# Altium footprint library 凯华热插拔-SK6812-3528反贴.PcbLib: 9 footprints
Each footprint in its own frame and in the unit in brackets; x right, y up, seen from the top. Pads: shape width x height; smd on the part's side, far side on the other; paste and mask are expansions set on the pad; w line width, h text height; cw(c..) or ccw(c..) is an arc to the next point about the centre after c.
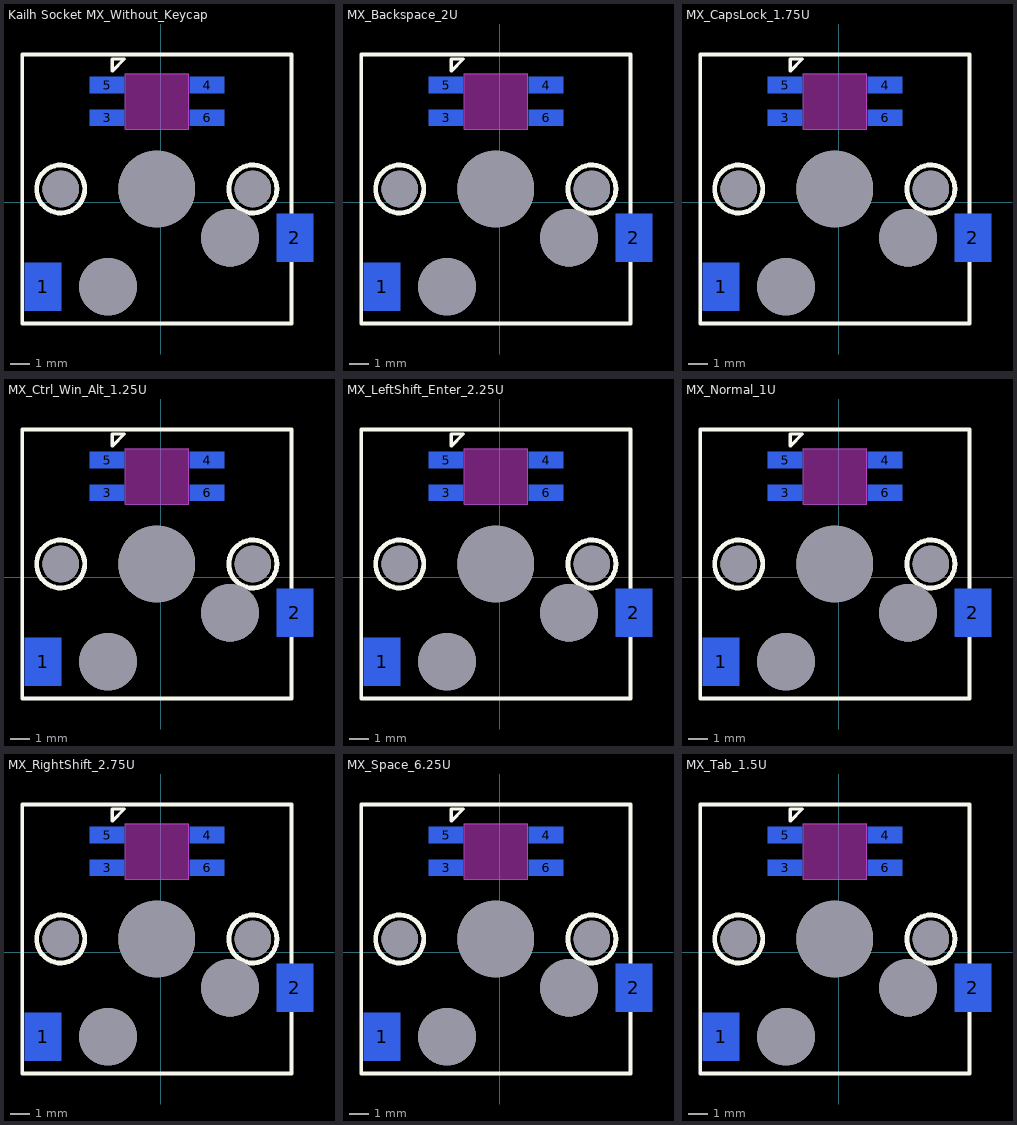
[diagram p0: the footprints below, top view; thin cyan lines are the x and y axes]

## Kailh Socket MX_Without_Keycap [mm] "无键帽"
pads (11):
  rect 1.9x2.5 smd far side: 1(-6.122,-4.397) 2(6.985,-1.857)
  rect 1.8x0.85 smd far side: 3(-2.787,4.387) 4(2.413,6.087) 5(-2.787,6.087) 6(2.412,4.387)
  round 1.9 hole 1.9 unplated: ""(-5.204,0.683) ""(4.796,0.683)
  round 3 hole 3 unplated: ""(-2.744,-4.397) ""(3.606,-1.857)
  round 4 hole 4 unplated: ""(-0.204,0.683)
Top Overlay:
  circle w0.254: c4.796,0.683 r1.25
  circle w0.254: c-5.204,0.683 r1.25
  lines w0.16: -2.521,6.815 -2.521,7.45 -1.886,7.45 -2.521,6.815
  lines w0.2: 2.796,7.683 6.797,7.683 6.797,-6.318 -7.204,-6.318 -7.204,7.683 2.896,7.683
Bottom Overlay:
  lines w0.16: -2.529,6.823 -2.529,7.458 -1.894,7.458 -2.529,6.823
  lines w0.254: -5.03,-6.175 -5.03,-2.111 0.203,-2.111 ccw(c0.082,0.104) 2.286,-0.156 5.892,-0.156 5.892,-4.397 cw(c4.123,-4.406) 4.114,-6.175 -5.03,-6.175
Keep-Out Layer:
  board cut-out: -1.838,6.687 1.462,6.687 1.462,3.787 -1.838,3.787
Mechanical 1:
  lines w0.013: -1.838,3.787 1.462,3.787 1.462,6.687 -1.838,6.687 -1.838,3.787
3D body "CherryMX_Switch.STEP": height 15.75, standoff -3.45, extent -8.004,-7.117 7.596,8.483
3D body "Kailh Hotswap MX v22.step": height -0.38, standoff -3.6, extent -6.742,-6 7.778,-0.05
3D body "SK6812_3528_4Pin.STEP": height -0.1, standoff -2, extent -1.95,3.807 1.55,6.607

## MX_Backspace_2U [mm] "2U 长度按键"
pads (11):
  rect 1.9x2.5 smd far side: 1(-6.122,-4.397) 2(6.985,-1.857)
  rect 1.8x0.85 smd far side: 3(-2.787,4.387) 4(2.413,6.087) 5(-2.787,6.087) 6(2.412,4.387)
  round 1.9 hole 1.9 unplated: ""(-5.204,0.683) ""(4.796,0.683)
  round 3 hole 3 unplated: ""(-2.744,-4.397) ""(3.606,-1.857)
  round 4 hole 4 unplated: ""(-0.204,0.683)
Top Overlay:
  circle w0.254: c-5.204,0.683 r1.25
  circle w0.254: c4.796,0.683 r1.25
  lines w0.16: -2.521,6.815 -1.886,7.45 -2.521,7.45 -2.521,6.815
  lines w0.2: 2.796,7.683 6.797,7.683 6.797,-6.318 -7.204,-6.318 -7.204,7.683 2.896,7.683
Bottom Overlay:
  lines w0.16: -2.529,6.823 -1.894,7.458 -2.529,7.458 -2.529,6.823
  lines w0.254: -5.03,-6.175 4.114,-6.175 ccw(c4.123,-4.406) 5.892,-4.397 5.892,-0.156 2.286,-0.156 cw(c0.082,0.104) 0.203,-2.111 -5.03,-2.111 -5.03,-6.175
Keep-Out Layer:
  board cut-out: -1.838,6.687 1.462,6.687 1.462,3.787 -1.838,3.787
Mechanical 1:
  lines w0.013: -1.838,3.787 1.462,3.787 1.462,6.687 -1.838,6.687 -1.838,3.787
3D body "SK6812_3528_4Pin.STEP": height -0.1, standoff -2, extent -1.95,3.807 1.55,6.607
3D body "Kailh Hotswap MX v22.step": height -0.38, standoff -3.6, extent -6.742,-6 7.778,-0.05
3D body "CherryMX_Switch.STEP": height 15.75, standoff -3.45, extent -8.004,-7.117 7.596,8.483
3D body "MX_Backspace_2U.STEP": height 21.91, standoff 10.8, extent -18.525,-8.3 18.525,9.7

## MX_CapsLock_1.75U [mm] "1.75U 长度按键"
pads (11):
  rect 1.9x2.5 smd far side: 1(-6.122,-4.397) 2(6.985,-1.857)
  rect 1.8x0.85 smd far side: 3(-2.787,4.387) 4(2.413,6.087) 5(-2.787,6.087) 6(2.412,4.387)
  round 1.9 hole 1.9 unplated: ""(-5.204,0.683) ""(4.796,0.683)
  round 3 hole 3 unplated: ""(-2.744,-4.397) ""(3.606,-1.857)
  round 4 hole 4 unplated: ""(-0.204,0.683)
Top Overlay:
  circle w0.254: c-5.204,0.683 r1.25
  circle w0.254: c4.796,0.683 r1.25
  lines w0.16: -2.521,6.815 -1.886,7.45 -2.521,7.45 -2.521,6.815
  lines w0.2: 2.796,7.683 6.797,7.683 6.797,-6.318 -7.204,-6.318 -7.204,7.683 2.896,7.683
Bottom Overlay:
  lines w0.16: -2.529,6.823 -1.894,7.458 -2.529,7.458 -2.529,6.823
  lines w0.254: -5.03,-6.175 4.114,-6.175 ccw(c4.123,-4.406) 5.892,-4.397 5.892,-0.156 2.286,-0.156 cw(c0.082,0.104) 0.203,-2.111 -5.03,-2.111 -5.03,-6.175
Keep-Out Layer:
  board cut-out: -1.838,6.687 1.462,6.687 1.462,3.787 -1.838,3.787
Mechanical 1:
  lines w0.013: -1.838,3.787 1.462,3.787 1.462,6.687 -1.838,6.687 -1.838,3.787
3D body "MX_CapsLock_1.75U.STEP": height 21.91, standoff 10.8, extent -16.13,-8.3 16.13,9.7
3D body "SK6812_3528_4Pin.STEP": height -0.1, standoff -2, extent -1.95,3.807 1.55,6.607
3D body "CherryMX_Switch.STEP": height 15.75, standoff -3.45, extent -8.004,-7.117 7.596,8.483
3D body "Kailh Hotswap MX v22.step": height -0.38, standoff -3.6, extent -6.742,-6 7.778,-0.05

## MX_Ctrl_Win_Alt_1.25U [mm] "1.25U 长度按键"
pads (11):
  rect 1.9x2.5 smd far side: 1(-6.122,-4.397) 2(6.985,-1.857)
  rect 1.8x0.85 smd far side: 3(-2.787,4.387) 4(2.413,6.087) 5(-2.787,6.087) 6(2.412,4.387)
  round 1.9 hole 1.9 unplated: ""(-5.204,0.683) ""(4.796,0.683)
  round 3 hole 3 unplated: ""(-2.744,-4.397) ""(3.606,-1.857)
  round 4 hole 4 unplated: ""(-0.204,0.683)
Top Overlay:
  circle w0.254: c4.796,0.683 r1.25
  circle w0.254: c-5.204,0.683 r1.25
  lines w0.16: -2.521,6.815 -2.521,7.45 -1.886,7.45 -2.521,6.815
  lines w0.2: 2.796,7.683 6.797,7.683 6.797,-6.318 -7.204,-6.318 -7.204,7.683 2.896,7.683
Bottom Overlay:
  lines w0.16: -2.529,6.823 -2.529,7.458 -1.894,7.458 -2.529,6.823
  lines w0.254: -5.03,-6.175 -5.03,-2.111 0.203,-2.111 ccw(c0.082,0.104) 2.286,-0.156 5.892,-0.156 5.892,-4.397 cw(c4.123,-4.406) 4.114,-6.175 -5.03,-6.175
Keep-Out Layer:
  board cut-out: -1.838,6.687 1.462,6.687 1.462,3.787 -1.838,3.787
Mechanical 1:
  lines w0.013: -1.838,3.787 1.462,3.787 1.462,6.687 -1.838,6.687 -1.838,3.787
3D body "MX_Ctrl_Win_Alt_1.25U.STEP": height 21.3, standoff 10.8, extent -11.36,-8.3 11.36,9.7
3D body "CherryMX_Switch.STEP": height 15.75, standoff -3.45, extent -8.004,-7.117 7.596,8.483
3D body "Kailh Hotswap MX v22.step": height -0.38, standoff -3.6, extent -6.742,-6 7.778,-0.05
3D body "SK6812_3528_4Pin.STEP": height -0.1, standoff -2, extent -1.95,3.807 1.55,6.607

## MX_LeftShift_Enter_2.25U [mm] "2.25U 长度按键"
pads (11):
  rect 1.9x2.5 smd far side: 1(-6.122,-4.397) 2(6.985,-1.857)
  rect 1.8x0.85 smd far side: 3(-2.787,4.387) 4(2.413,6.087) 5(-2.787,6.087) 6(2.412,4.387)
  round 1.9 hole 1.9 unplated: ""(-5.204,0.683) ""(4.796,0.683)
  round 3 hole 3 unplated: ""(-2.744,-4.397) ""(3.606,-1.857)
  round 4 hole 4 unplated: ""(-0.204,0.683)
Top Overlay:
  circle w0.254: c-5.204,0.683 r1.25
  circle w0.254: c4.796,0.683 r1.25
  lines w0.16: -2.521,6.815 -1.886,7.45 -2.521,7.45 -2.521,6.815
  lines w0.2: 2.796,7.683 6.797,7.683 6.797,-6.318 -7.204,-6.318 -7.204,7.683 2.896,7.683
Bottom Overlay:
  lines w0.16: -2.529,6.823 -1.894,7.458 -2.529,7.458 -2.529,6.823
  lines w0.254: -5.03,-6.175 4.114,-6.175 ccw(c4.123,-4.406) 5.892,-4.397 5.892,-0.156 2.286,-0.156 cw(c0.082,0.104) 0.203,-2.111 -5.03,-2.111 -5.03,-6.175
Keep-Out Layer:
  board cut-out: -1.838,6.687 1.462,6.687 1.462,3.787 -1.838,3.787
Mechanical 1:
  lines w0.013: -1.838,3.787 1.462,3.787 1.462,6.687 -1.838,6.687 -1.838,3.787
3D body "SK6812_3528_4Pin.STEP": height -0.1, standoff -2, extent -1.95,3.807 1.55,6.607
3D body "Kailh Hotswap MX v22.step": height -0.38, standoff -3.6, extent -6.742,-6 7.778,-0.05
3D body "CherryMX_Switch.STEP": height 15.75, standoff -3.45, extent -8.004,-7.117 7.596,8.483
3D body "MX_LeftShift_Enter_2.25U.STEP": height 21.91, standoff 10.8, extent -20.906,-8.3 20.906,9.7

## MX_Normal_1U [mm] "1U 长度按键"
pads (11):
  rect 1.9x2.5 smd far side: 1(-6.122,-4.397) 2(6.985,-1.857)
  rect 1.8x0.85 smd far side: 3(-2.787,4.387) 4(2.413,6.087) 5(-2.787,6.087) 6(2.412,4.387)
  round 1.9 hole 1.9 unplated: ""(-5.204,0.683) ""(4.796,0.683)
  round 3 hole 3 unplated: ""(-2.744,-4.397) ""(3.606,-1.857)
  round 4 hole 4 unplated: ""(-0.204,0.683)
Top Overlay:
  circle w0.254: c4.796,0.683 r1.25
  circle w0.254: c-5.204,0.683 r1.25
  lines w0.16: -2.521,6.815 -2.521,7.45 -1.886,7.45 -2.521,6.815
  lines w0.2: 2.796,7.683 6.797,7.683 6.797,-6.318 -7.204,-6.318 -7.204,7.683 2.896,7.683
Bottom Overlay:
  lines w0.16: -2.529,6.823 -2.529,7.458 -1.894,7.458 -2.529,6.823
  lines w0.254: -5.03,-6.175 -5.03,-2.111 0.203,-2.111 ccw(c0.082,0.104) 2.286,-0.156 5.892,-0.156 5.892,-4.397 cw(c4.123,-4.406) 4.114,-6.175 -5.03,-6.175
Keep-Out Layer:
  board cut-out: -1.838,6.687 1.462,6.687 1.462,3.787 -1.838,3.787
Mechanical 1:
  lines w0.013: -1.838,3.787 1.462,3.787 1.462,6.687 -1.838,6.687 -1.838,3.787
3D body "MX_Normal_1U.STEP": height 21.3, standoff 10.8, extent -9,-8.3 9,9.7
3D body "CherryMX_Switch.STEP": height 15.75, standoff -3.45, extent -8.004,-7.117 7.596,8.483
3D body "Kailh Hotswap MX v22.step": height -0.38, standoff -3.6, extent -6.742,-6 7.778,-0.05
3D body "SK6812_3528_4Pin.STEP": height -0.1, standoff -2, extent -1.95,3.807 1.55,6.607

## MX_RightShift_2.75U [mm] "2.75U 长度按键"
pads (11):
  rect 1.9x2.5 smd far side: 1(-6.122,-4.397) 2(6.985,-1.857)
  rect 1.8x0.85 smd far side: 3(-2.787,4.387) 4(2.413,6.087) 5(-2.787,6.087) 6(2.412,4.387)
  round 1.9 hole 1.9 unplated: ""(-5.204,0.683) ""(4.796,0.683)
  round 3 hole 3 unplated: ""(-2.744,-4.397) ""(3.606,-1.857)
  round 4 hole 4 unplated: ""(-0.204,0.683)
Top Overlay:
  circle w0.254: c-5.204,0.683 r1.25
  circle w0.254: c4.796,0.683 r1.25
  lines w0.16: -2.521,6.815 -1.886,7.45 -2.521,7.45 -2.521,6.815
  lines w0.2: 2.796,7.683 6.797,7.683 6.797,-6.318 -7.204,-6.318 -7.204,7.683 2.896,7.683
Bottom Overlay:
  lines w0.16: -2.529,6.823 -1.894,7.458 -2.529,7.458 -2.529,6.823
  lines w0.254: -5.03,-6.175 4.114,-6.175 ccw(c4.123,-4.406) 5.892,-4.397 5.892,-0.156 2.286,-0.156 cw(c0.082,0.104) 0.203,-2.111 -5.03,-2.111 -5.03,-6.175
Keep-Out Layer:
  board cut-out: -1.838,6.687 1.462,6.687 1.462,3.787 -1.838,3.787
Mechanical 1:
  lines w0.013: -1.838,3.787 1.462,3.787 1.462,6.687 -1.838,6.687 -1.838,3.787
3D body "MX_RightShift_2.75U.STEP": height 21.91, standoff 10.8, extent -25.669,-8.3 25.669,9.7
3D body "SK6812_3528_4Pin.STEP": height -0.1, standoff -2, extent -1.95,3.807 1.55,6.607
3D body "Kailh Hotswap MX v22.step": height -0.38, standoff -3.6, extent -6.742,-6 7.778,-0.05
3D body "CherryMX_Switch.STEP": height 15.75, standoff -3.45, extent -8.004,-7.117 7.596,8.483

## MX_Space_6.25U [mm] "6.25U 长度按键"
pads (11):
  rect 1.9x2.5 smd far side: 1(-6.122,-4.397) 2(6.985,-1.857)
  rect 1.8x0.85 smd far side: 3(-2.787,4.387) 4(2.413,6.087) 5(-2.787,6.087) 6(2.412,4.387)
  round 1.9 hole 1.9 unplated: ""(-5.204,0.683) ""(4.796,0.683)
  round 3 hole 3 unplated: ""(-2.744,-4.397) ""(3.606,-1.857)
  round 4 hole 4 unplated: ""(-0.204,0.683)
Top Overlay:
  circle w0.254: c-5.204,0.683 r1.25
  circle w0.254: c4.796,0.683 r1.25
  lines w0.16: -2.521,6.815 -1.886,7.45 -2.521,7.45 -2.521,6.815
  lines w0.2: 2.796,7.683 6.797,7.683 6.797,-6.318 -7.204,-6.318 -7.204,7.683 2.896,7.683
Bottom Overlay:
  lines w0.16: -2.529,6.823 -1.894,7.458 -2.529,7.458 -2.529,6.823
  lines w0.254: -5.03,-6.175 4.114,-6.175 ccw(c4.123,-4.406) 5.892,-4.397 5.892,-0.156 2.286,-0.156 cw(c0.082,0.104) 0.203,-2.111 -5.03,-2.111 -5.03,-6.175
Keep-Out Layer:
  board cut-out: -1.838,6.687 1.462,6.687 1.462,3.787 -1.838,3.787
Mechanical 1:
  lines w0.013: -1.838,3.787 1.462,3.787 1.462,6.687 -1.838,6.687 -1.838,3.787
3D body "Kailh Hotswap MX v22.step": height -0.38, standoff -3.6, extent -6.742,-6 7.778,-0.05
3D body "CherryMX_Switch.STEP": height 15.75, standoff -3.45, extent -8.004,-7.117 7.596,8.483
3D body "MX_Space_6.25U.STEP": height 21.91, standoff 10.8, extent -59,-8.3 59,9.7
3D body "SK6812_3528_4Pin.STEP": height -0.1, standoff -2, extent -1.95,3.807 1.55,6.607

## MX_Tab_1.5U [mm] "1.5U 长度按键"
pads (11):
  rect 1.9x2.5 smd far side: 1(-6.122,-4.397) 2(6.985,-1.857)
  rect 1.8x0.85 smd far side: 3(-2.787,4.387) 4(2.413,6.087) 5(-2.787,6.087) 6(2.412,4.387)
  round 1.9 hole 1.9 unplated: ""(-5.204,0.683) ""(4.796,0.683)
  round 3 hole 3 unplated: ""(-2.744,-4.397) ""(3.606,-1.857)
  round 4 hole 4 unplated: ""(-0.204,0.683)
Top Overlay:
  circle w0.254: c4.796,0.683 r1.25
  circle w0.254: c-5.204,0.683 r1.25
  lines w0.16: -2.521,6.815 -2.521,7.45 -1.886,7.45 -2.521,6.815
  lines w0.2: 2.796,7.683 6.797,7.683 6.797,-6.318 -7.204,-6.318 -7.204,7.683 2.896,7.683
Bottom Overlay:
  lines w0.16: -2.529,6.823 -2.529,7.458 -1.894,7.458 -2.529,6.823
  lines w0.254: -5.03,-6.175 -5.03,-2.111 0.203,-2.111 ccw(c0.082,0.104) 2.286,-0.156 5.892,-0.156 5.892,-4.397 cw(c4.123,-4.406) 4.114,-6.175 -5.03,-6.175
Keep-Out Layer:
  board cut-out: -1.838,6.687 1.462,6.687 1.462,3.787 -1.838,3.787
Mechanical 1:
  lines w0.013: -1.838,3.787 -1.838,6.687 1.462,6.687 1.462,3.787 -1.838,3.787
3D body "CherryMX_Switch.STEP": height 15.75, standoff -3.45, extent -8.004,-7.117 7.596,8.483
3D body "Kailh Hotswap MX v22.step": height -0.38, standoff -3.6, extent -6.742,-6 7.778,-0.05
3D body "SK6812_3528_4Pin.STEP": height -0.1, standoff -2, extent -1.95,3.807 1.55,6.607
3D body "MX_Tab_1.5U.STEP": height 21.91, standoff 10.8, extent -13.763,-8.3 13.763,9.7